# EAGLE library part DEVEBOX_STM32_G030_FULL (library _mtvl.cells)
DevEBox STM32_G030 development board
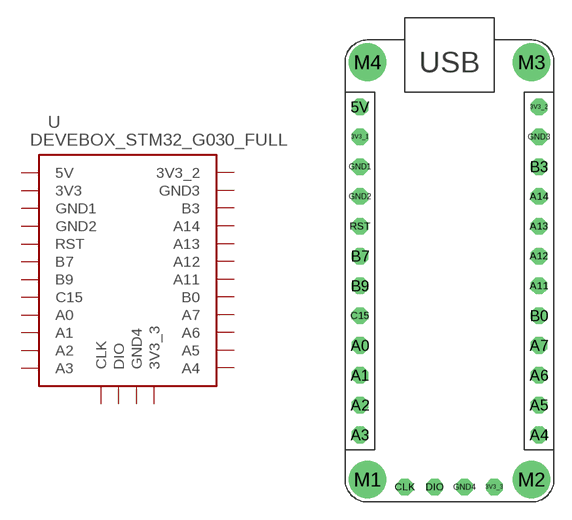
[diagram p7: symbol with the pads of DEVEBOX_STM32_G030_FULL; footprint DEVEBOX_STM32_G030_FULL]

Designator prefix U

## DEVEBOX_STM32_G030_FULL  [DEVEBOX_STM32_G030_FULL]
3V3_1  3V3
3V3_2  3V3_2
3V3_3  3V3_3
5V  5V
A0  A0
A1  A1
A2  A2
A3  A3
A4  A4
A5  A5
A6  A6
A7  A7
A11  A11
A12  A12
A13  A13
A14  A14
B0  B0
B3  B3
B7  B7
B9  B9
C15  C15
CLK  CLK
DIO  DIO
GND1  GND1
GND2  GND2
GND3  GND3
GND4  GND4
M1  GND1
M2  GND1
M3  GND1
M4  GND1
RST  RST

## Footprint DEVEBOX_STM32_G030_FULL (pad centres in mm)
DevEBox STM32_G030 development board
drill 0.9 octagon: 3V3_1 -7.62,11.43; 3V3_2 7.62,13.97; 3V3_3 3.81,-18.415; 5V -7.62,13.97; A0 -7.62,-6.35; A1 -7.62,-8.89; A2 -7.62,-11.43; A3 -7.62,-13.97; A4 7.62,-13.97; A5 7.62,-11.43; A6 7.62,-8.89; A7 7.62,-6.35; A11 7.62,-1.27; A12 7.62,1.27; A13 7.62,3.81; A14 7.62,6.35; B0 7.62,-3.81; B3 7.62,8.89; B7 -7.62,1.27; B9 -7.62,-1.27; C15 -7.62,-3.81; CLK -3.81,-18.415; DIO -1.27,-18.415; GND1 -7.62,8.89; GND2 -7.62,6.35; GND3 7.62,11.43; GND4 1.27,-18.415; RST -7.62,3.81
drill 2.2: M1 -6.985,-17.78; M2 6.985,-17.78; M3 6.985,17.78; M4 -6.985,17.78